# Altium schematic symbol library H7_1V2.SCHLIB: 72 symbols
Pins are listed as number, name and electrical type; pins without a type are passive.

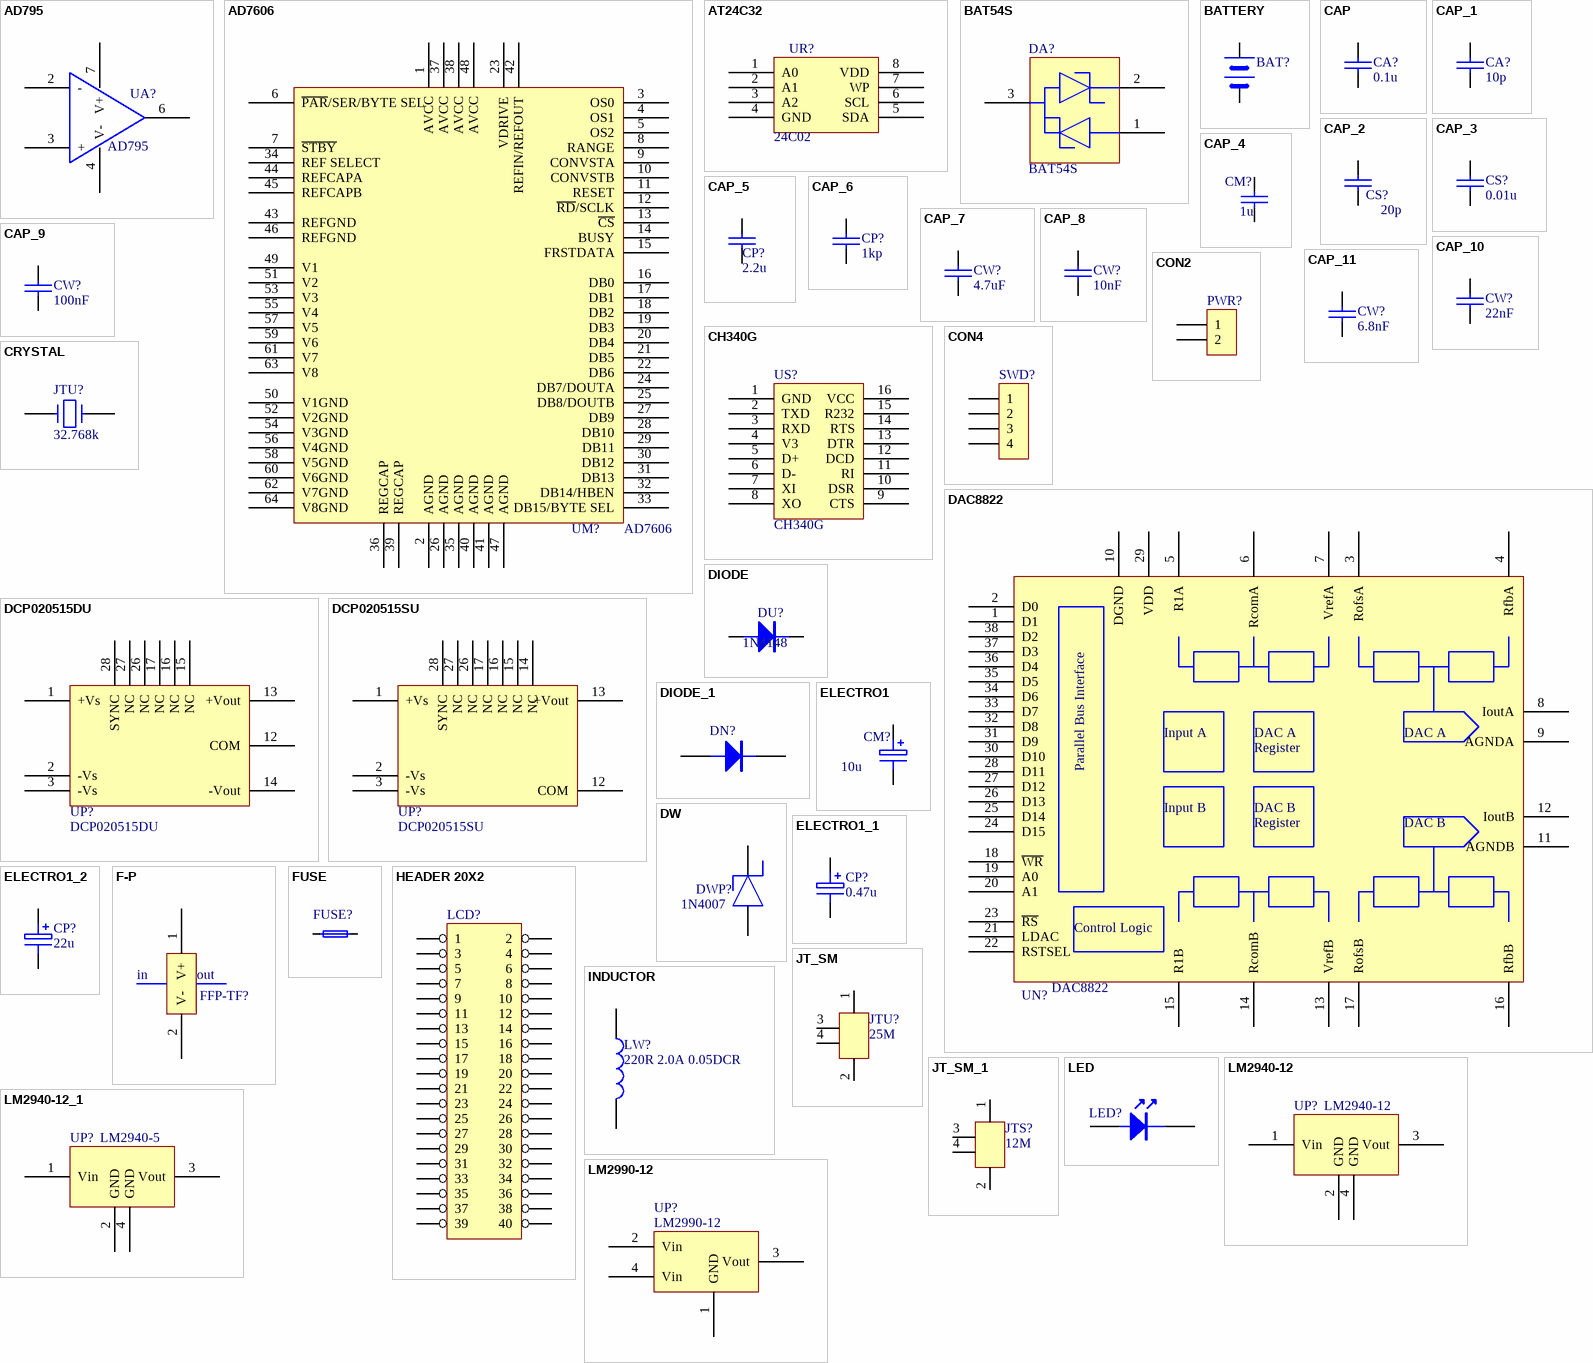
[diagram p0: symbols AD795 to LM2990-12]

## AD795
designator UA?
footprint SO-8
pins: 2 -, 3 +, 4 V-, 6, 7 V+

## AD7606
designator UM?
footprint LQFP64
pins: 1 AVCC, 2 AGND, 3 OS0, 4 OS1, 5 OS2, 6 ~{PAR}/SER/BYTE SEL (oc), 7 ~{STBY}, 8 RANGE, 9 CONVSTA, 10 CONVSTB, 11 RESET, 12 ~{RD}/SCLK, 13 ~{CS}, 14 BUSY, 15 FRSTDATA, 16 DB0, 17 DB1, 18 DB2, 19 DB3, 20 DB4, 21 DB5, 22 DB6, 23 VDRIVE, 24 DB7/DOUTA, 25 DB8/DOUTB, 26 AGND, 27 DB9, 28 DB10, 29 DB11, 30 DB12, 31 DB13, 32 DB14/HBEN, 33 DB15/BYTE SEL, 34 REF SELECT, 35 AGND, 36 REGCAP, 37 AVCC, 38 AVCC, 39 REGCAP, 40 AGND, 41 AGND, 42 REFIN/REFOUT, 43 REFGND, 44 REFCAPA, 45 REFCAPB, 46 REFGND, 47 AGND, 48 AVCC, 49 V1, 50 V1GND, 51 V2, 52 V2GND, 53 V3, 54 V3GND, 55 V4, 56 V4GND, 57 V5, 58 V5GND, 59 V6, 60 V6GND, 61 V7, 62 V7GND, 63 V8, 64 V8GND

## AT24C32
designator UR?, comment 24C02
footprint SO-8
pins: 1 A0, 2 A1, 3 A2, 4 GND, 5 SDA, 6 SCL, 7 WP, 8 VDD

## BAT54S
designator DA?
footprint BAT54S
pins: 1, 2, 3

## BATTERY
designator BAT?
footprint LI1220_1
footprint BT
pins: 1, 2

## CAP
designator CA?, comment 0.1u
Capacitor
footprint 0805
pins: 1, 2

## CAP_1
designator CA?, comment 10p
Capacitor
footprint 0805
pins: 1, 2

## CAP_2
designator CS?, comment 20p
Capacitor
footprint 0805
pins: 1, 2

## CAP_3
designator CS?, comment 0.01u
Capacitor
footprint 0805
pins: 1, 2

## CAP_4
designator CM?, comment 1u
Capacitor
footprint 0805
pins: 1, 2

## CAP_5
designator CP?, comment 2.2u
Capacitor
footprint 0805
pins: 1, 2

## CAP_6
designator CP?, comment 1kp
Capacitor
footprint 0805
pins: 1, 2

## CAP_7
designator CW?, comment 4.7uF
Capacitor
footprint 0805
pins: 1, 2

## CAP_8
designator CW?, comment 10nF
Capacitor
footprint 0805
pins: 1, 2

## CAP_9
designator CW?, comment 100nF
Capacitor
footprint 0805
pins: 1, 2

## CAP_10
designator CW?, comment 22nF
Capacitor
footprint 0805
pins: 1, 2

## CAP_11
designator CW?, comment 6.8nF
Capacitor
footprint 0805
pins: 1, 2

## CH340G
designator US?
footprint SOB-16A
pins: 1 GND, 2 TXD, 3 RXD, 4 V3, 5 D+, 6 D-, 7 XI, 8 XO, 9 CTS, 10 DSR, 11 RI, 12 DCD, 13 DTR, 14 RTS, 15 R232, 16 VCC

## CON2
designator PWR?
Connector
footprint MYP2-4.2
pins: 1, 2

## CON4
designator SWD?
Connector
footprint MYSIP4
pins: 1, 2, 3, 4

## CRYSTAL
designator JTU?, comment 32.768k
Crystal
footprint jt2
pins: 1, 2

## DAC8822
designator UN?
footprint SO-G38
pins: 1 D1, 2 D0, 3 RofsA, 4 RfbA, 5 R1A, 6 RcomA, 7 VrefA, 8 IoutA, 9 AGNDA, 10 DGND, 11 AGNDB, 12 IoutB, 13 VrefB, 14 RcomB, 15 R1B, 16 RfbB, 17 RofsB, 18 ~{WR}, 19 A0, 20 A1, 21 LDAC, 22 RSTSEL, 23 ~{RS}, 24 D15, 25 D14, 26 D13, 27 D12, 28 D11, 29 VDD, 30 D10, 31 D9, 32 D8, 33 D7, 34 D6, 35 D5, 36 D4, 37 D3, 38 D2
text: Input A; DAC A; Register; Parallel Bus Interface; Input B; DAC B; Control Logic

## DCP020515DU
designator UP?
footprint DCP020515DU
pins: 1 +Vs, 2 -Vs, 3 -Vs, 12 COM, 13 +Vout, 14 -Vout, 15 NC, 16 NC, 17 NC, 26 NC, 27 NC, 28 SYNC

## DCP020515SU
designator UP?
footprint DCP020515DU
pins: 1 +Vs, 2 -Vs, 3 -Vs, 12 COM, 13 +Vout, 14 NC, 15 NC, 16 NC, 17 NC, 26 NC, 27 NC, 28 SYNC

## DIODE
designator DU?, comment 1N4148
Diode
footprint 0805P
pins: 1 A, 2 K

## DIODE_1
designator DN?
Diode
footprint 0805P
pins: 1 A, 2 K

## DW
designator DWP?, comment 1N4007
footprint DW
pins: 1, 2

## ELECTRO1
designator CM?, comment 10u
footprint 0805
pins: 1, 2

## ELECTRO1_1
designator CP?, comment 0.47u
footprint 0805
pins: 1, 2

## ELECTRO1_2
designator CP?, comment 22u
footprint 0805
pins: 1, 2

## F-P
designator FFP-TF?
footprint FFP-TF2
pins: 1 V+, 2 V-
text: in; out

## FUSE
designator FUSE?
footprint FUSE-D
footprint FUSE
pins: 1, 2

## HEADER 20X2
designator LCD?
footprint IDC40P_2.00
pins: 1, 2, 3, 4, 5, 6, 7, 8, 9, 10, 11, 12, 13, 14, 15, 16, 17, 18, 19, 20, 21, 22, 23, 24, 25, 26, 27, 28, 29, 30, 31, 32, 33, 34, 35, 36, 37, 38, 39, 40

## INDUCTOR
designator LW?, comment 220R 2.0A 0.05DCR
footprint 0805
pins: 1, 2

## JT_SM
designator JTU?, comment 25M
footprint JT_SM
pins: 1, 2, 3, 4

## JT_SM_1
designator JTS?, comment 12M
footprint JT_SM
pins: 1, 2, 3, 4

## LED
designator LED?
footprint 0805P
pins: A 1, K 2

## LM2940-12
designator UP?
footprint SOT223
pins: 1 Vin, 2 GND, 3 Vout, 4 GND

## LM2940-12_1
designator UP?, comment LM2940-5
footprint SOT223
pins: 1 Vin, 2 GND, 3 Vout, 4 GND

## LM2990-12
designator UP?
footprint LM2990
pins: 1 GND, 2 Vin, 3 Vout, 4 Vin

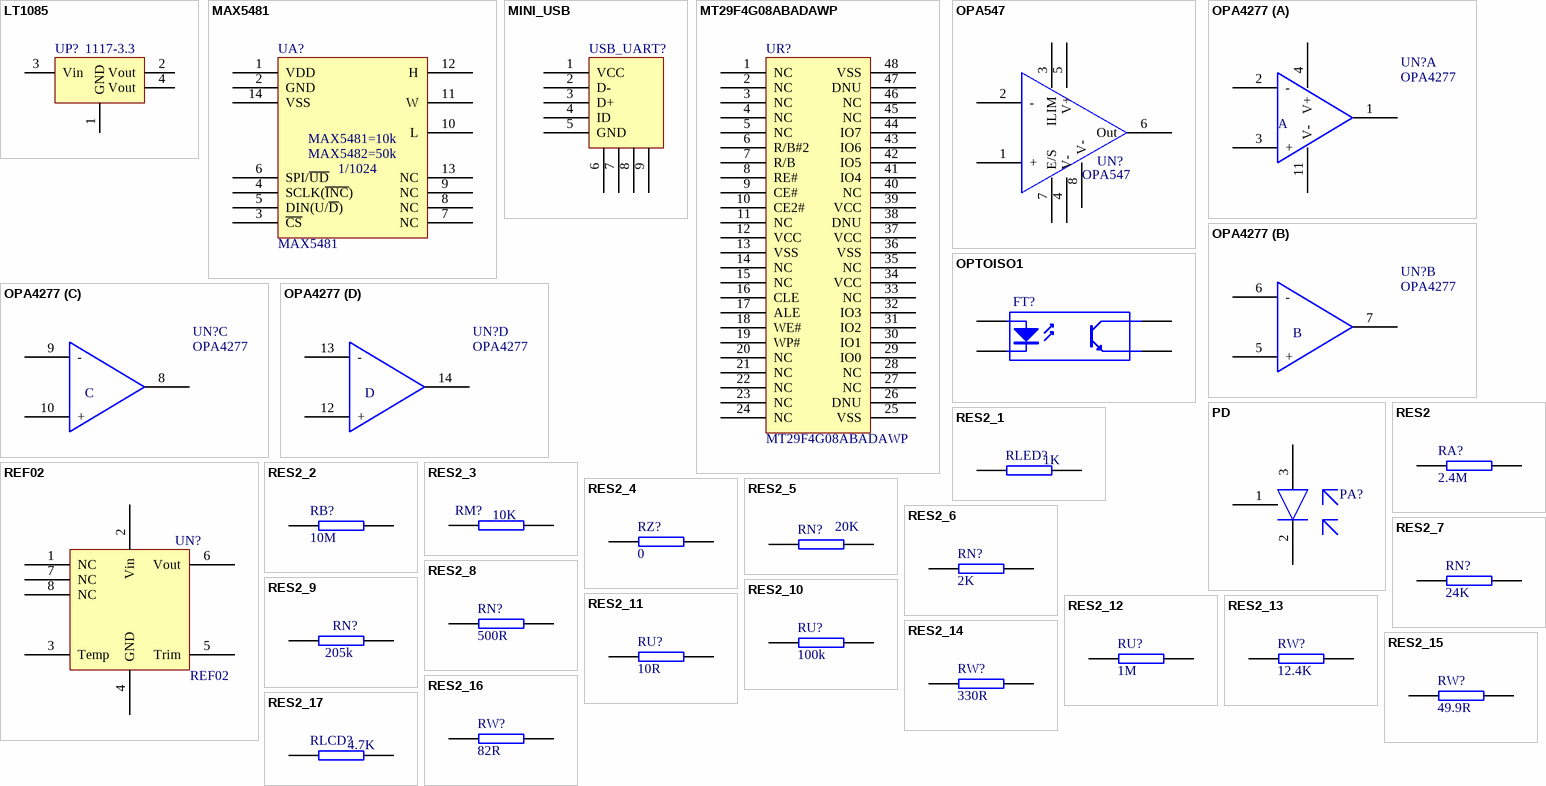
[diagram p1: symbols LT1085 to RES2_17]

## LT1085
designator UP?, comment 1117-3.3
footprint LT1085
footprint TO-252
pins: 1 GND, 2 Vout, 3 Vin, 4 Vout

## MAX5481
designator UA?
footprint TSSOP14
pins: 1 VDD, 2 GND, 3 ~{CS}, 4 SCLK(~{INC}), 5 DIN(U/~{D}), 6 SPI/~{UD}, 7 NC, 8 NC, 9 NC, 10 L, 11 W, 12 H, 13 NC, 14 VSS
text: MAX5481=10k; MAX5482=50k; 1/1024

## MINI_USB
designator USB_UART?
footprint MINIUSB2
pins: 1 VCC, 2 D-, 3 D+, 4 ID, 5 GND, 6, 7, 8, 9

## MT29F4G08ABADAWP
designator UR?
footprint TSOP-48
pins: 1 NC, 2 NC, 3 NC, 4 NC, 5 NC, 6 R/B#2, 7 R/B, 8 RE#, 9 CE#, 10 CE2#, 11 NC, 12 VCC, 13 VSS, 14 NC, 15 NC, 16 CLE, 17 ALE, 18 WE#, 19 WP#, 20 NC, 21 NC, 22 NC, 23 NC, 24 NC, 25 VSS, 26 DNU, 27 NC, 28 NC, 29 IO0, 30 IO1, 31 IO2, 32 IO3, 33 NC, 34 VCC, 35 NC, 36 VSS, 37 VCC, 38 DNU, 39 VCC, 40 NC, 41 IO4, 42 IO5, 43 IO6, 44 IO7, 45 NC, 46 NC, 47 DNU, 48 VSS

## OPA547
designator UN?
footprint OPA547
pins: 1 +, 2 -, 3 ILIM, 4 V-, 5 V+, 6 Out, 7 E/S, 8 V-

## OPA4277
designator UN?
footprint SO-14
part A pins: 1, 2 -, 3 +, 4 V+, 11 V-
part B pins: 5 +, 6 -, 7
part C pins: 8, 9 -, 10 +
part D pins: 12 +, 13 -, 14
part A text: A
part B text: B
part C text: C
part D text: D

## OPTOISO1
designator FT?
Optoisolator
footprint TP121
pins: 1 A, 2 K, 3 C, 4 E

## PD
designator PA?
footprint PD
pins: 1, 2, 3

## REF02
designator UN?
footprint SO-8
pins: 1 NC, 2 Vin, 3 Temp, 4 GND, 5 Trim, 6 Vout, 7 NC, 8 NC

## RES2
designator RA?, comment 2.4M
footprint 0805
pins: 1, 2

## RES2_1
designator RLED?, comment 1K
footprint 0805
pins: 1, 2

## RES2_2
designator RB?, comment 10M
footprint 0805
pins: 1, 2

## RES2_3
designator RM?, comment 10K
footprint 0805
pins: 1, 2

## RES2_4
designator RZ?, comment 0
footprint 0805
pins: 1, 2

## RES2_5
designator RN?, comment 20K
footprint 0805
pins: 1, 2

## RES2_6
designator RN?, comment 2K
footprint 0805
pins: 1, 2

## RES2_7
designator RN?, comment 24K
footprint 0805
pins: 1, 2

## RES2_8
designator RN?, comment 500R
footprint 0805
pins: 1, 2

## RES2_9
designator RN?, comment 205k
footprint 0805
pins: 1, 2

## RES2_10
designator RU?, comment 100k
footprint 0805
pins: 1, 2

## RES2_11
designator RU?, comment 10R
footprint 0805
pins: 1, 2

## RES2_12
designator RU?, comment 1M
footprint 0805
pins: 1, 2

## RES2_13
designator RW?, comment 12.4K
footprint 0805
pins: 1, 2

## RES2_14
designator RW?, comment 330R
footprint 0805
pins: 1, 2

## RES2_15
designator RW?, comment 49.9R
footprint 0805
pins: 1, 2

## RES2_16
designator RW?, comment 82R
footprint 0805
pins: 1, 2

## RES2_17
designator RLCD?, comment 4.7K
footprint 0805
pins: 1, 2

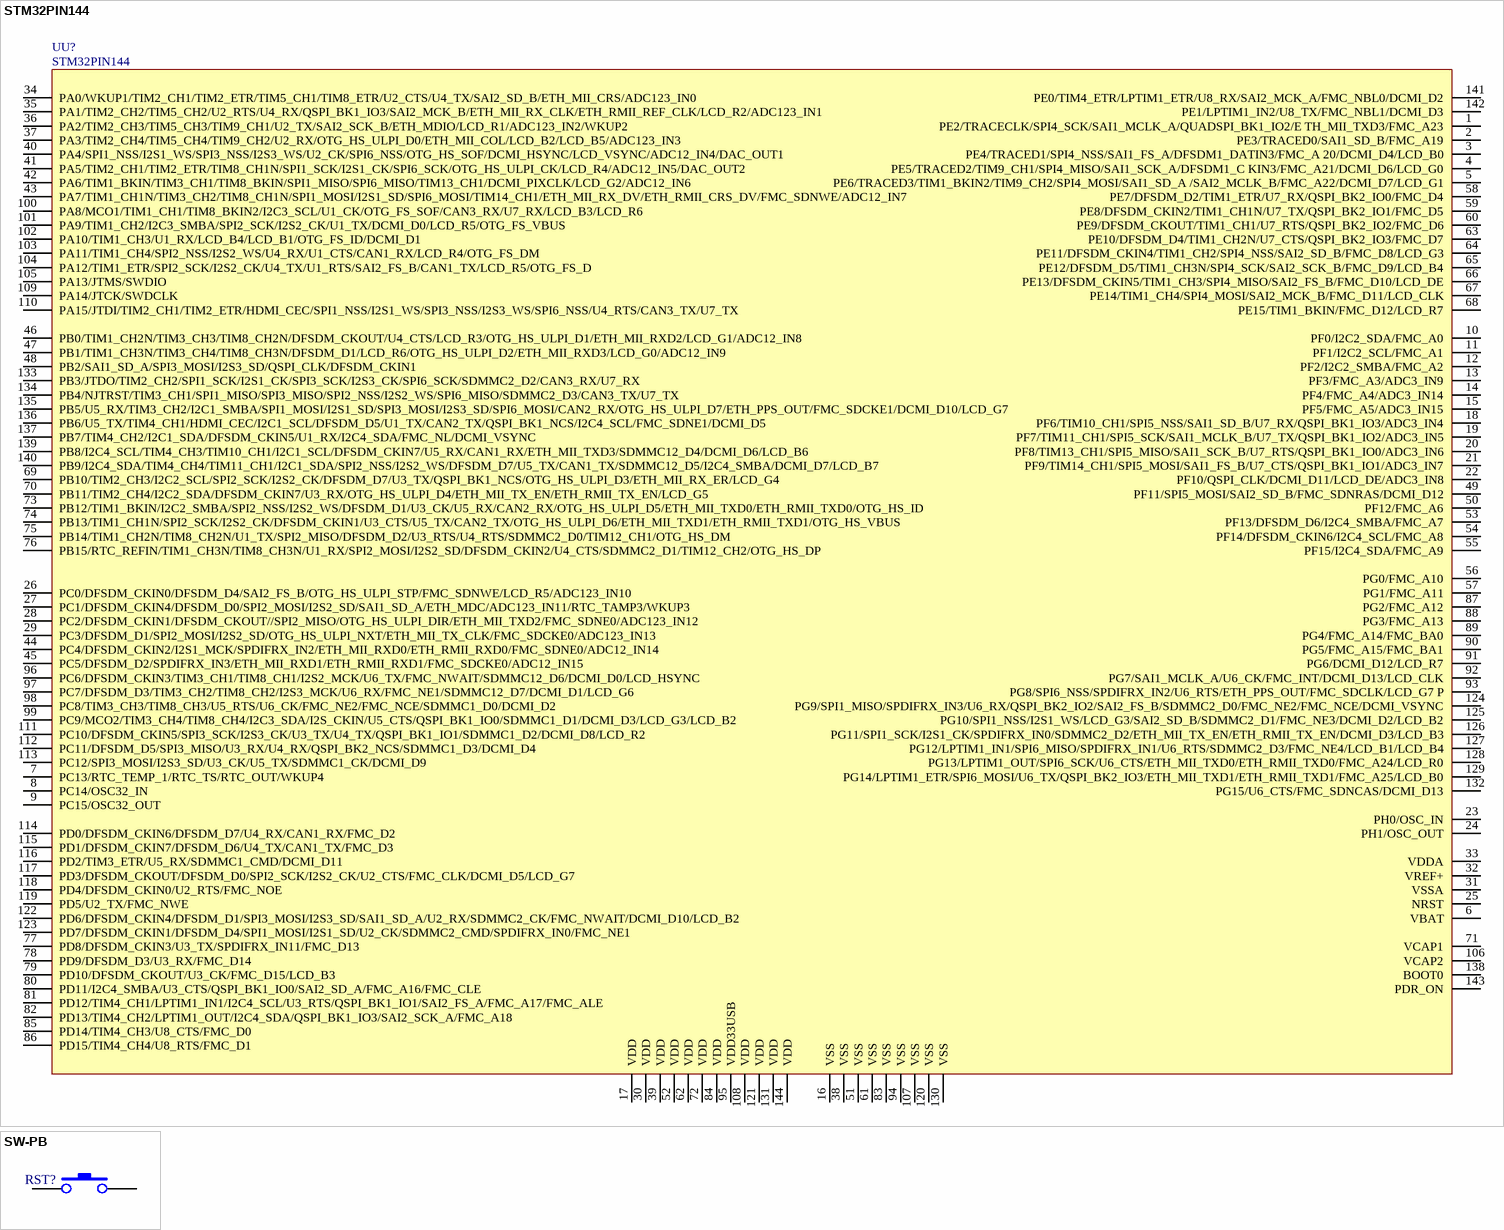
[diagram p2: symbols STM32PIN144 to SW-PB]

## STM32PIN144
designator UU?
footprint LQFP144
pins: 1 PE2/TRACECLK/SPI4_SCK/SAI1_MCLK_A/QUADSPI_BK1_IO2/E
TH_MII_TXD3/FMC_A23, 2 PE3/TRACED0/SAI1_SD_B/FMC_A19, 3 PE4/TRACED1/SPI4_NSS/SAI1_FS_A/DFSDM1_DATIN3/FMC_A
20/DCMI_D4/LCD_B0, 4 PE5/TRACED2/TIM9_CH1/SPI4_MISO/SAI1_SCK_A/DFSDM1_C
KIN3/FMC_A21/DCMI_D6/LCD_G0, 5 PE6/TRACED3/TIM1_BKIN2/TIM9_CH2/SPI4_MOSI/SAI1_SD_A
/SAI2_MCLK_B/FMC_A22/DCMI_D7/LCD_G1, 6 VBAT, 7 PC13/RTC_TEMP_1/RTC_TS/RTC_OUT/WKUP4, 8 PC14/OSC32_IN, 9 PC15/OSC32_OUT, 10 PF0/I2C2_SDA/FMC_A0, 11 PF1/I2C2_SCL/FMC_A1, 12 PF2/I2C2_SMBA/FMC_A2, 13 PF3/FMC_A3/ADC3_IN9, 14 PF4/FMC_A4/ADC3_IN14, 15 PF5/FMC_A5/ADC3_IN15, 16 VSS, 17 VDD, 18 PF6/TIM10_CH1/SPI5_NSS/SAI1_SD_B/U7_RX/QSPI_BK1_IO3/ADC3_IN4, 19 PF7/TIM11_CH1/SPI5_SCK/SAI1_MCLK_B/U7_TX/QSPI_BK1_IO2/ADC3_IN5, 20 PF8/TIM13_CH1/SPI5_MISO/SAI1_SCK_B/U7_RTS/QSPI_BK1_IO0/ADC3_IN6, 21 PF9/TIM14_CH1/SPI5_MOSI/SAI1_FS_B/U7_CTS/QSPI_BK1_IO1/ADC3_IN7, 22 PF10/QSPI_CLK/DCMI_D11/LCD_DE/ADC3_IN8, 23 PH0/OSC_IN, 24 PH1/OSC_OUT, 25 NRST, 26 PC0/DFSDM_CKIN0/DFSDM_D4/SAI2_FS_B/OTG_HS_ULPI_STP/FMC_SDNWE/LCD_R5/ADC123_IN10, 27 PC1/DFSDM_CKIN4/DFSDM_D0/SPI2_MOSI/I2S2_SD/SAI1_SD_A/ETH_MDC/ADC123_IN11/RTC_TAMP3/WKUP3, 28 PC2/DFSDM_CKIN1/DFSDM_CKOUT//SPI2_MISO/OTG_HS_ULPI_DIR/ETH_MII_TXD2/FMC_SDNE0/ADC123_IN12, 29 PC3/DFSDM_D1/SPI2_MOSI/I2S2_SD/OTG_HS_ULPI_NXT/ETH_MII_TX_CLK/FMC_SDCKE0/ADC123_IN13, 30 VDD, 31 VSSA, 32 VREF+, 33 VDDA, 34 PA0/WKUP1/TIM2_CH1/TIM2_ETR/TIM5_CH1/TIM8_ETR/U2_CTS/U4_TX/SAI2_SD_B/ETH_MII_CRS/ADC123_IN0, 35 PA1/TIM2_CH2/TIM5_CH2/U2_RTS/U4_RX/QSPI_BK1_IO3/SAI2_MCK_B/ETH_MII_RX_CLK/ETH_RMII_REF_CLK/LCD_R2/ADC123_IN1, 36 PA2/TIM2_CH3/TIM5_CH3/TIM9_CH1/U2_TX/SAI2_SCK_B/ETH_MDIO/LCD_R1/ADC123_IN2/WKUP2, 37 PA3/TIM2_CH4/TIM5_CH4/TIM9_CH2/U2_RX/OTG_HS_ULPI_D0/ETH_MII_COL/LCD_B2/LCD_B5/ADC123_IN3, 38 VSS, 39 VDD, 40 PA4/SPI1_NSS/I2S1_WS/SPI3_NSS/I2S3_WS/U2_CK/SPI6_NSS/OTG_HS_SOF/DCMI_HSYNC/LCD_VSYNC/ADC12_IN4/DAC_OUT1, 41 PA5/TIM2_CH1/TIM2_ETR/TIM8_CH1N/SPI1_SCK/I2S1_CK/SPI6_SCK/OTG_HS_ULPI_CK/LCD_R4/ADC12_IN5/DAC_OUT2, 42 PA6/TIM1_BKIN/TIM3_CH1/TIM8_BKIN/SPI1_MISO/SPI6_MISO/TIM13_CH1/DCMI_PIXCLK/LCD_G2/ADC12_IN6, 43 PA7/TIM1_CH1N/TIM3_CH2/TIM8_CH1N/SPI1_MOSI/I2S1_SD/SPI6_MOSI/TIM14_CH1/ETH_MII_RX_DV/ETH_RMII_CRS_DV/FMC_SDNWE/ADC12_IN7, 44 PC4/DFSDM_CKIN2/I2S1_MCK/SPDIFRX_IN2/ETH_MII_RXD0/ETH_RMII_RXD0/FMC_SDNE0/ADC12_IN14, 45 PC5/DFSDM_D2/SPDIFRX_IN3/ETH_MII_RXD1/ETH_RMII_RXD1/FMC_SDCKE0/ADC12_IN15, 46 PB0/TIM1_CH2N/TIM3_CH3/TIM8_CH2N/DFSDM_CKOUT/U4_CTS/LCD_R3/OTG_HS_ULPI_D1/ETH_MII_RXD2/LCD_G1/ADC12_IN8, 47 PB1/TIM1_CH3N/TIM3_CH4/TIM8_CH3N/DFSDM_D1/LCD_R6/OTG_HS_ULPI_D2/ETH_MII_RXD3/LCD_G0/ADC12_IN9, 48 PB2/SAI1_SD_A/SPI3_MOSI/I2S3_SD/QSPI_CLK/DFSDM_CKIN1, 49 PF11/SPI5_MOSI/SAI2_SD_B/FMC_SDNRAS/DCMI_D12, 50 PF12/FMC_A6, 51 VSS, 52 VDD, 53 PF13/DFSDM_D6/I2C4_SMBA/FMC_A7, 54 PF14/DFSDM_CKIN6/I2C4_SCL/FMC_A8, 55 PF15/I2C4_SDA/FMC_A9, 56 PG0/FMC_A10, 57 PG1/FMC_A11, 58 PE7/DFSDM_D2/TIM1_ETR/U7_RX/QSPI_BK2_IO0/FMC_D4, 59 PE8/DFSDM_CKIN2/TIM1_CH1N/U7_TX/QSPI_BK2_IO1/FMC_D5, 60 PE9/DFSDM_CKOUT/TIM1_CH1/U7_RTS/QSPI_BK2_IO2/FMC_D6, 61 VSS, 62 VDD, 63 PE10/DFSDM_D4/TIM1_CH2N/U7_CTS/QSPI_BK2_IO3/FMC_D7, 64 PE11/DFSDM_CKIN4/TIM1_CH2/SPI4_NSS/SAI2_SD_B/FMC_D8/LCD_G3, 65 PE12/DFSDM_D5/TIM1_CH3N/SPI4_SCK/SAI2_SCK_B/FMC_D9/LCD_B4, 66 PE13/DFSDM_CKIN5/TIM1_CH3/SPI4_MISO/SAI2_FS_B/FMC_D10/LCD_DE, 67 PE14/TIM1_CH4/SPI4_MOSI/SAI2_MCK_B/FMC_D11/LCD_CLK, 68 PE15/TIM1_BKIN/FMC_D12/LCD_R7, 69 PB10/TIM2_CH3/I2C2_SCL/SPI2_SCK/I2S2_CK/DFSDM_D7/U3_TX/QSPI_BK1_NCS/OTG_HS_ULPI_D3/ETH_MII_RX_ER/LCD_G4, 70 PB11/TIM2_CH4/I2C2_SDA/DFSDM_CKIN7/U3_RX/OTG_HS_ULPI_D4/ETH_MII_TX_EN/ETH_RMII_TX_EN/LCD_G5, 71 VCAP1, 72 VDD, 73 PB12/TIM1_BKIN/I2C2_SMBA/SPI2_NSS/I2S2_WS/DFSDM_D1/U3_CK/U5_RX/CAN2_RX/OTG_HS_ULPI_D5/ETH_MII_TXD0/ETH_RMII_TXD0/OTG_HS_ID, 74 PB13/TIM1_CH1N/SPI2_SCK/I2S2_CK/DFSDM_CKIN1/U3_CTS/U5_TX/CAN2_TX/OTG_HS_ULPI_D6/ETH_MII_TXD1/ETH_RMII_TXD1/OTG_HS_VBUS, 75 PB14/TIM1_CH2N/TIM8_CH2N/U1_TX/SPI2_MISO/DFSDM_D2/U3_RTS/U4_RTS/SDMMC2_D0/TIM12_CH1/OTG_HS_DM, 76 PB15/RTC_REFIN/TIM1_CH3N/TIM8_CH3N/U1_RX/SPI2_MOSI/I2S2_SD/DFSDM_CKIN2/U4_CTS/SDMMC2_D1/TIM12_CH2/OTG_HS_DP, 77 PD8/DFSDM_CKIN3/U3_TX/SPDIFRX_IN11/FMC_D13, 78 PD9/DFSDM_D3/U3_RX/FMC_D14, 79 PD10/DFSDM_CKOUT/U3_CK/FMC_D15/LCD_B3, 80 PD11/I2C4_SMBA/U3_CTS/QSPI_BK1_IO0/SAI2_SD_A/FMC_A16/FMC_CLE, 81 PD12/TIM4_CH1/LPTIM1_IN1/I2C4_SCL/U3_RTS/QSPI_BK1_IO1/SAI2_FS_A/FMC_A17/FMC_ALE, 82 PD13/TIM4_CH2/LPTIM1_OUT/I2C4_SDA/QSPI_BK1_IO3/SAI2_SCK_A/FMC_A18, 83 VSS, 84 VDD, 85 PD14/TIM4_CH3/U8_CTS/FMC_D0, 86 PD15/TIM4_CH4/U8_RTS/FMC_D1, 87 PG2/FMC_A12, 88 PG3/FMC_A13, 89 PG4/FMC_A14/FMC_BA0, 90 PG5/FMC_A15/FMC_BA1, 91 PG6/DCMI_D12/LCD_R7, 92 PG7/SAI1_MCLK_A/U6_CK/FMC_INT/DCMI_D13/LCD_CLK, 93 PG8/SPI6_NSS/SPDIFRX_IN2/U6_RTS/ETH_PPS_OUT/FMC_SDCLK/LCD_G7 P, 94 VSS, 95 VDD33USB, 96 PC6/DFSDM_CKIN3/TIM3_CH1/TIM8_CH1/I2S2_MCK/U6_TX/FMC_NWAIT/SDMMC12_D6/DCMI_D0/LCD_HSYNC, 97 PC7/DFSDM_D3/TIM3_CH2/TIM8_CH2/I2S3_MCK/U6_RX/FMC_NE1/SDMMC12_D7/DCMI_D1/LCD_G6, 98 PC8/TIM3_CH3/TIM8_CH3/U5_RTS/U6_CK/FMC_NE2/FMC_NCE/SDMMC1_D0/DCMI_D2, 99 PC9/MCO2/TIM3_CH4/TIM8_CH4/I2C3_SDA/I2S_CKIN/U5_CTS/QSPI_BK1_IO0/SDMMC1_D1/DCMI_D3/LCD_G3/LCD_B2, 100 PA8/MCO1/TIM1_CH1/TIM8_BKIN2/I2C3_SCL/U1_CK/OTG_FS_SOF/CAN3_RX/U7_RX/LCD_B3/LCD_R6, 101 PA9/TIM1_CH2/I2C3_SMBA/SPI2_SCK/I2S2_CK/U1_TX/DCMI_D0/LCD_R5/OTG_FS_VBUS, 102 PA10/TIM1_CH3/U1_RX/LCD_B4/LCD_B1/OTG_FS_ID/DCMI_D1, 103 PA11/TIM1_CH4/SPI2_NSS/I2S2_WS/U4_RX/U1_CTS/CAN1_RX/LCD_R4/OTG_FS_DM, 104 PA12/TIM1_ETR/SPI2_SCK/I2S2_CK/U4_TX/U1_RTS/SAI2_FS_B/CAN1_TX/LCD_R5/OTG_FS_D, 105 PA13/JTMS/SWDIO, 106 VCAP2, 107 VSS, 108 VDD, 109 PA14/JTCK/SWDCLK, 110 PA15/JTDI/TIM2_CH1/TIM2_ETR/HDMI_CEC/SPI1_NSS/I2S1_WS/SPI3_NSS/I2S3_WS/SPI6_NSS/U4_RTS/CAN3_TX/U7_TX, 111 PC10/DFSDM_CKIN5/SPI3_SCK/I2S3_CK/U3_TX/U4_TX/QSPI_BK1_IO1/SDMMC1_D2/DCMI_D8/LCD_R2, 112 PC11/DFSDM_D5/SPI3_MISO/U3_RX/U4_RX/QSPI_BK2_NCS/SDMMC1_D3/DCMI_D4, 113 PC12/SPI3_MOSI/I2S3_SD/U3_CK/U5_TX/SDMMC1_CK/DCMI_D9, 114 PD0/DFSDM_CKIN6/DFSDM_D7/U4_RX/CAN1_RX/FMC_D2, 115 PD1/DFSDM_CKIN7/DFSDM_D6/U4_TX/CAN1_TX/FMC_D3, 116 PD2/TIM3_ETR/U5_RX/SDMMC1_CMD/DCMI_D11, 117 PD3/DFSDM_CKOUT/DFSDM_D0/SPI2_SCK/I2S2_CK/U2_CTS/FMC_CLK/DCMI_D5/LCD_G7, 118 PD4/DFSDM_CKIN0/U2_RTS/FMC_NOE, 119 PD5/U2_TX/FMC_NWE, 120 VSS, 121 VDD, 122 PD6/DFSDM_CKIN4/DFSDM_D1/SPI3_MOSI/I2S3_SD/SAI1_SD_A/U2_RX/SDMMC2_CK/FMC_NWAIT/DCMI_D10/LCD_B2, 123 PD7/DFSDM_CKIN1/DFSDM_D4/SPI1_MOSI/I2S1_SD/U2_CK/SDMMC2_CMD/SPDIFRX_IN0/FMC_NE1, 124 PG9/SPI1_MISO/SPDIFRX_IN3/U6_RX/QSPI_BK2_IO2/SAI2_FS_B/SDMMC2_D0/FMC_NE2/FMC_NCE/DCMI_VSYNC, 125 PG10/SPI1_NSS/I2S1_WS/LCD_G3/SAI2_SD_B/SDMMC2_D1/FMC_NE3/DCMI_D2/LCD_B2, 126 PG11/SPI1_SCK/I2S1_CK/SPDIFRX_IN0/SDMMC2_D2/ETH_MII_TX_EN/ETH_RMII_TX_EN/DCMI_D3/LCD_B3, 127 PG12/LPTIM1_IN1/SPI6_MISO/SPDIFRX_IN1/U6_RTS/SDMMC2_D3/FMC_NE4/LCD_B1/LCD_B4, 128 PG13/LPTIM1_OUT/SPI6_SCK/U6_CTS/ETH_MII_TXD0/ETH_RMII_TXD0/FMC_A24/LCD_R0, 129 PG14/LPTIM1_ETR/SPI6_MOSI/U6_TX/QSPI_BK2_IO3/ETH_MII_TXD1/ETH_RMII_TXD1/FMC_A25/LCD_B0, 130 VSS, 131 VDD, 132 PG15/U6_CTS/FMC_SDNCAS/DCMI_D13, 133 PB3/JTDO/TIM2_CH2/SPI1_SCK/I2S1_CK/SPI3_SCK/I2S3_CK/SPI6_SCK/SDMMC2_D2/CAN3_RX/U7_RX, 134 PB4/NJTRST/TIM3_CH1/SPI1_MISO/SPI3_MISO/SPI2_NSS/I2S2_WS/SPI6_MISO/SDMMC2_D3/CAN3_TX/U7_TX, 135 PB5/U5_RX/TIM3_CH2/I2C1_SMBA/SPI1_MOSI/I2S1_SD/SPI3_MOSI/I2S3_SD/SPI6_MOSI/CAN2_RX/OTG_HS_ULPI_D7/ETH_PPS_OUT/FMC_SDCKE1/DCMI_D10/LCD_G7, 136 PB6/U5_TX/TIM4_CH1/HDMI_CEC/I2C1_SCL/DFSDM_D5/U1_TX/CAN2_TX/QSPI_BK1_NCS/I2C4_SCL/FMC_SDNE1/DCMI_D5, 137 PB7/TIM4_CH2/I2C1_SDA/DFSDM_CKIN5/U1_RX/I2C4_SDA/FMC_NL/DCMI_VSYNC, 138 BOOT0, 139 PB8/I2C4_SCL/TIM4_CH3/TIM10_CH1/I2C1_SCL/DFSDM_CKIN7/U5_RX/CAN1_RX/ETH_MII_TXD3/SDMMC12_D4/DCMI_D6/LCD_B6, 140 PB9/I2C4_SDA/TIM4_CH4/TIM11_CH1/I2C1_SDA/SPI2_NSS/I2S2_WS/DFSDM_D7/U5_TX/CAN1_TX/SDMMC12_D5/I2C4_SMBA/DCMI_D7/LCD_B7, 141 PE0/TIM4_ETR/LPTIM1_ETR/U8_RX/SAI2_MCK_A/FMC_NBL0/DCMI_D2, 142 PE1/LPTIM1_IN2/U8_TX/FMC_NBL1/DCMI_D3, 143 PDR_ON, 144 VDD

## SW-PB
designator RST?
footprint KEY
pins: 1, 2

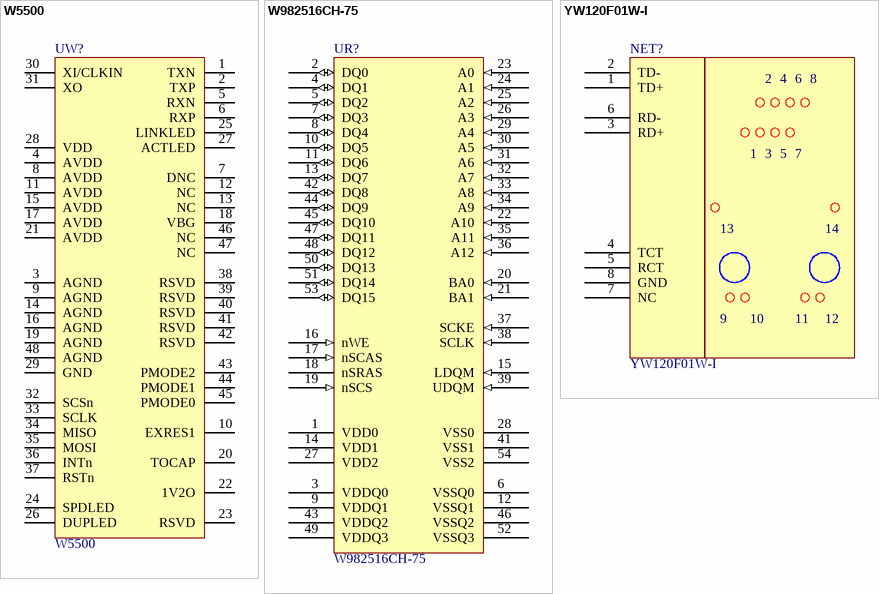
[diagram p3: symbols W5500 to YW120F01W-I]

## W5500
designator UW?
footprint LQFP48
pins: 1 TXN, 2 TXP, 3 AGND, 4 AVDD, 5 RXN, 6 RXP, 7 DNC, 8 AVDD, 9 AGND, 10 EXRES1, 11 AVDD, 12 NC, 13 NC, 14 AGND, 15 AVDD, 16 AGND, 17 AVDD, 18 VBG, 19 AGND, 20 TOCAP, 21 AVDD, 22 1V2O, 23 RSVD, 24 SPDLED, 25 LINKLED, 26 DUPLED, 27 ACTLED, 28 VDD, 29 GND, 30 XI/CLKIN, 31 XO, 32 SCSn, 33 SCLK, 34 MISO, 35 MOSI, 36 INTn, 37 RSTn, 38 RSVD, 39 RSVD, 40 RSVD, 41 RSVD, 42 RSVD, 43 PMODE2, 44 PMODE1, 45 PMODE0, 46 NC, 47 NC, 48 AGND

## W982516CH-75
designator UR?
footprint TSOP54
pins: 1 VDD0 (power), 2 DQ0 (io), 3 VDDQ0 (power), 4 DQ1 (io), 5 DQ2 (io), 6 VSSQ0 (power), 7 DQ3 (io), 8 DQ4 (io), 9 VDDQ1 (power), 10 DQ5 (io), 11 DQ6 (io), 12 VSSQ1 (power), 13 DQ7 (io), 14 VDD1 (power), 15 LDQM (in), 16 nWE (in), 17 nSCAS (in), 18 nSRAS, 19 nSCS (in), 20 BA0 (in), 21 BA1 (in), 22 A10 (in), 23 A0 (in), 24 A1 (in), 25 A2 (in), 26 A3 (in), 27 VDD2 (power), 28 VSS0 (power), 29 A4 (in), 30 A5 (in), 31 A6 (in), 32 A7 (in), 33 A8 (in), 34 A9 (in), 35 A11 (in), 36 A12 (in), 37 SCKE (in), 38 SCLK (in), 39 UDQM (in), 41 VSS1 (power), 42 DQ8 (io), 43 VDDQ2 (power), 44 DQ9 (io), 45 DQ10 (io), 46 VSSQ2 (power), 47 DQ11 (io), 48 DQ12 (io), 49 VDDQ3 (power), 50 DQ13 (io), 51 DQ14 (io), 52 VSSQ3 (power), 53 DQ15 (io), 54 VSS2 (power)

## YW120F01W-I
designator NET?
footprint YW120F01W-I
pins: 1 TD+, 2 TD-, 3 RD+, 4 TCT, 5 RCT, 6 RD-, 7 NC, 8 GND
text: 13; 14; 9; 10; 11; 12